# EAGLE library part TEENSY3.6 (library AC_Motor_Control)
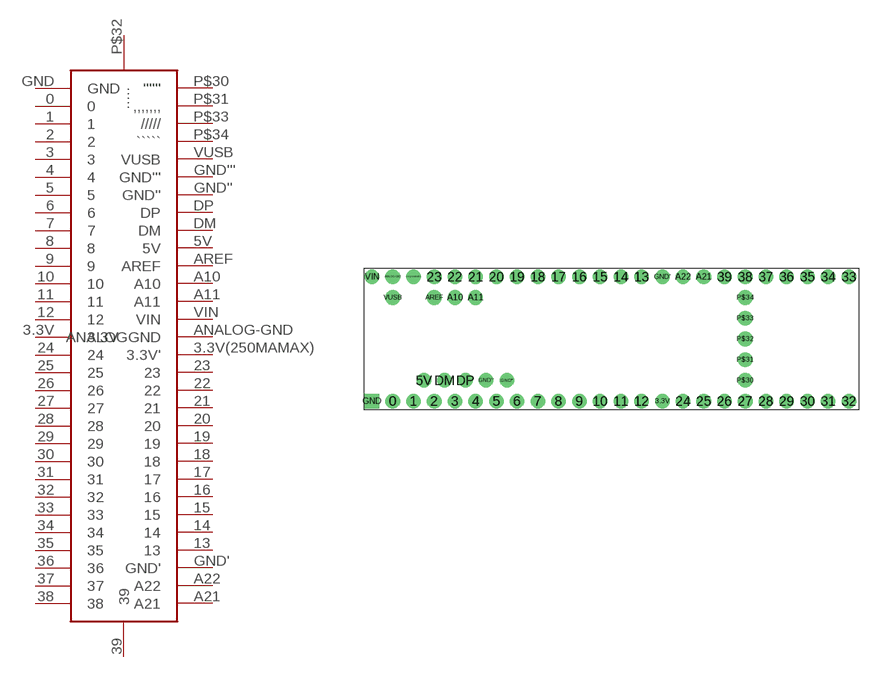
[diagram p0: symbol with the pads of TEENSY3.6; footprint TEENSY3.6]

Designator prefix -

## TEENSY3.6  [TEENSY3.6]
0  0
1  1
2  2
3  3
3.3V  3.3V
3.3V(250MAMAX)  3.3V'
4  4
5  5
5V  5V
6  6
7  7
8  8
9  9
10  10
11  11
12  12
13  13
14  14
15  15
16  16
17  17
18  18
19  19
20  20
21  21
22  22
23  23
24  24
25  25
26  26
27  27
28  28
29  29
30  30
31  31
32  32
33  33
34  34
35  35
36  36
37  37
38  38
39  39
A10  A10
A11  A11
A21  A21
A22  A22
ANALOG-GND  ANALOGGND
AREF  AREF
DM  DM
DP  DP
GND  GND
GND'  GND'
GND''  GND''
GND'''  GND'''
P$30  ''''''
P$31  ,,,,,,,
P$32  .....
P$33  /////
P$34  `````
VIN  VIN
VUSB  VUSB

## Footprint TEENSY3.6 (pad centres in mm)
drill 1.19: 0 2.54,-15.24; 1 5.08,-15.24; 2 7.62,-15.24; 3 10.16,-15.24; 3.3V 35.56,-15.24; 3.3V(250MAMAX) 5.08,0; 4 12.7,-15.24; 5 15.24,-15.24; 5V 6.35,-12.7; 6 17.78,-15.24; 7 20.32,-15.24; 8 22.86,-15.24; 9 25.4,-15.24; 10 27.94,-15.24; 11 30.48,-15.24; 12 33.02,-15.24; 13 33.02,0; 14 30.48,0; 15 27.94,0; 16 25.4,0; 17 22.86,0; 18 20.32,0; 19 17.78,0; 20 15.24,0; 21 12.7,0; 22 10.16,0; 23 7.62,0; 24 38.1,-15.24; 25 40.64,-15.24; 26 43.18,-15.24; 27 45.72,-15.24; 28 48.26,-15.24; 29 50.8,-15.24; 30 53.34,-15.24; 31 55.88,-15.24; 32 58.42,-15.24; 33 58.42,0; 34 55.88,0; 35 53.34,0; 36 50.8,0; 37 48.26,0; 38 45.72,0; 39 43.18,0; A10 10.16,-2.54; A11 12.7,-2.54; A21 40.64,0; A22 38.1,0; ANALOG-GND 2.54,0; AREF 7.62,-2.54; DM 8.89,-12.7; DP 11.43,-12.7; GND' 35.56,0; GND'' 13.97,-12.7; GND''' 16.51,-12.7; P$30 45.72,-12.7; P$31 45.72,-10.16; P$32 45.72,-7.62; P$33 45.72,-5.08; P$34 45.72,-2.54; VIN 0,0; VUSB 2.54,-2.54
drill 1.19 square: GND 0,-15.24